# EAGLE library part FT4232H (library ftdichip-6)
Quad USB UART 5th generation USB to 4-port serial controller
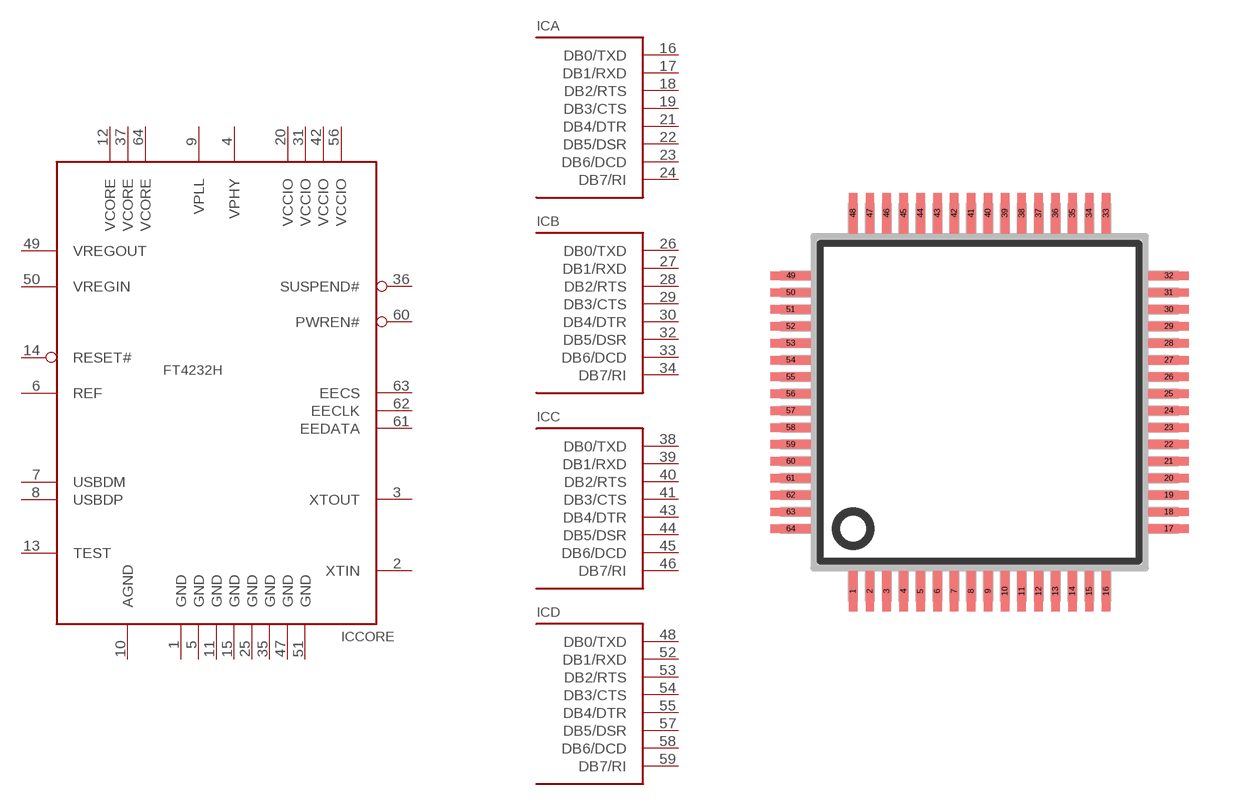
[diagram p7: symbol with the pads of LQFP64; footprint LQFP64]

Designator prefix IC; gates CORE=4232CORE A=4232PORT B=4232PORT C=4232PORT D=4232PORT

## FT4232HL  [LQFP64]
1  CORE:GND  pwr
2  CORE:XTIN  in
3  CORE:XTOUT  out
4  CORE:VPHY  pwr
5  CORE:GND  pwr
6  CORE:REF  in
7  CORE:USBDM  in
8  CORE:USBDP  in
9  CORE:VPLL  pwr
10  CORE:AGND  pwr
11  CORE:GND  pwr
12  CORE:VCORE  pwr
13  CORE:TEST  in
14  CORE:RESET#  in
15  CORE:GND  pwr
16  A:DB0/TXD
17  A:DB1/RXD
18  A:DB2/RTS
19  A:DB3/CTS
20  CORE:VCCIO  pwr
21  A:DB4/DTR
22  A:DB5/DSR
23  A:DB6/DCD
24  A:DB7/RI
25  CORE:GND  pwr
26  B:DB0/TXD
27  B:DB1/RXD
28  B:DB2/RTS
29  B:DB3/CTS
30  B:DB4/DTR
31  CORE:VCCIO  pwr
32  B:DB5/DSR
33  B:DB6/DCD
34  B:DB7/RI
35  CORE:GND  pwr
36  CORE:SUSPEND#  out
37  CORE:VCORE  pwr
38  C:DB0/TXD
39  C:DB1/RXD
40  C:DB2/RTS
41  C:DB3/CTS
42  CORE:VCCIO  pwr
43  C:DB4/DTR
44  C:DB5/DSR
45  C:DB6/DCD
46  C:DB7/RI
47  CORE:GND  pwr
48  D:DB0/TXD
49  CORE:VREGOUT  out
50  CORE:VREGIN
51  CORE:GND  pwr
52  D:DB1/RXD
53  D:DB2/RTS
54  D:DB3/CTS
55  D:DB4/DTR
56  CORE:VCCIO  pwr
57  D:DB5/DSR
58  D:DB6/DCD
59  D:DB7/RI
60  CORE:PWREN#  out
61  CORE:EEDATA
62  CORE:EECLK  out
63  CORE:EECS
64  CORE:VCORE  pwr

## Footprint LQFP64 (pad centres in mm)
LQFP-64 package 10x10 mm case, 0.5 mm lead pitch
smd 0.25 x 1.2: 1 -3.75,-5.6; 2 -3.25,-5.6; 3 -2.75,-5.6; 4 -2.25,-5.6; 5 -1.75,-5.6; 6 -1.25,-5.6; 7 -0.75,-5.6; 8 -0.25,-5.6; 9 0.25,-5.6; 10 0.75,-5.6; 11 1.25,-5.6; 12 1.75,-5.6; 13 2.25,-5.6; 14 2.75,-5.6; 15 3.25,-5.6; 16 3.75,-5.6; 33 3.75,5.6; 34 3.25,5.6; 35 2.75,5.6; 36 2.25,5.6; 37 1.75,5.6; 38 1.25,5.6; 39 0.75,5.6; 40 0.25,5.6; 41 -0.25,5.6; 42 -0.75,5.6; 43 -1.25,5.6; 44 -1.75,5.6; 45 -2.25,5.6; 46 -2.75,5.6; 47 -3.25,5.6; 48 -3.75,5.6
smd 1.2 x 0.25: 17 5.6,-3.75; 18 5.6,-3.25; 19 5.6,-2.75; 20 5.6,-2.25; 21 5.6,-1.75; 22 5.6,-1.25; 23 5.6,-0.75; 24 5.6,-0.25; 25 5.6,0.25; 26 5.6,0.75; 27 5.6,1.25; 28 5.6,1.75; 29 5.6,2.25; 30 5.6,2.75; 31 5.6,3.25; 32 5.6,3.75; 49 -5.6,3.75; 50 -5.6,3.25; 51 -5.6,2.75; 52 -5.6,2.25; 53 -5.6,1.75; 54 -5.6,1.25; 55 -5.6,0.75; 56 -5.6,0.25; 57 -5.6,-0.25; 58 -5.6,-0.75; 59 -5.6,-1.25; 60 -5.6,-1.75; 61 -5.6,-2.25; 62 -5.6,-2.75; 63 -5.6,-3.25; 64 -5.6,-3.75